# Altium schematic symbol library SchedaLed.SchLib: 10 symbols
Pins are listed as number, name and electrical type; pins without a type are passive.

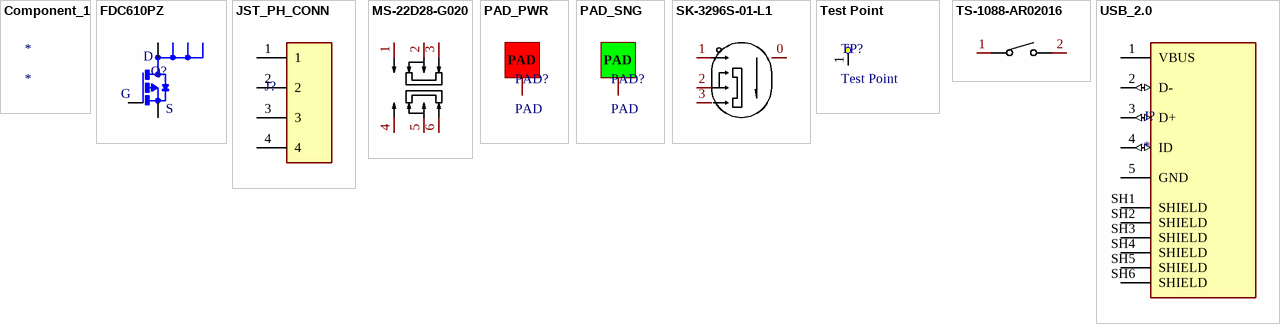
[diagram p0: symbols Component_1 to USB_2.0]

## Component_1
designator *

## FDC610PZ
designator Q?  (value not drawn)
footprint FDC610PZ
pins: 1 D1, 2 D2, 3 G, 4 S, 5 D4, 6 D3
text: D

## JST_PH_CONN
designator J?
footprint JST_PH_CONN
pins: 1, 2, 3, 4

## MS-22D28-G020
designator SW?  (value not drawn)
Manufacturer: G-Switch(品赞); Add into BOM: yes; Circuit: DPDT; Actuator Style: Rectangular columnar; Pin Style: SMDSplicing; Switch Length: 7.1mm; Switch Width: 4mm; Switch Height: 4.15mm; Actuator Color: Black; Current Rating (DC): 1A; Voltage Rating (DC): 6V; Mechanical Life: 1万次; Symbol: MS-22D28-G020; Device: MS-22D28-G020; LCSC Part Name: 微型拨动开关; Supplier Part: C963205; Manufacturer Part: MS-22D28-G020; Supplier Footprint: SMD; JLCPCB Part Class: Extended Part; Datasheet: https://atta.szlcsc.com/upload/public/pdf/source/20201201/C963205_C5D063C82E54835A0EB59C5EF53F51F1.pdf; Supplier: LCSC; Convert to PCB: yes; Mounting Style: Brick nogging; Operating Temperature: -20℃~+70℃
footprint SW-SMD_MS-22D28-G020
pins: 1, 2, 3, 4, 5, 6

## PAD_PWR
designator PAD?, comment PAD
footprint PAD_PWR
pins: 1 PAD

## PAD_SNG
designator PAD?, comment PAD
footprint PAD_SNG
pins: 1 PAD

## SK-3296S-01-L1
designator SW?  (value not drawn)
Manufacturer: XKB Connectivity(中国星坤); Add into BOM: yes; Circuit: SPDT; Actuator Style: Rectangular columnar; Pin Style: SMDSplicing; Switch Length: 7.8mm; Switch Width: 2.75mm; Switch Height: 1.35mm; Actuator Color: Black; Current Rating (DC): 50mA; Voltage Rating (DC): 12V; Mechanical Life: 1万次; Symbol: SK-3296S-01-L1; Device: SK-3296S-01-L1; LCSC Part Name: 柄长1.5mm 卧贴双档 滑动开关; Supplier Part: C319020; Manufacturer Part: SK-3296S-01-L1; Supplier Footprint: SMD; JLCPCB Part Class: Extended Part; Datasheet: https://atta.szlcsc.com/upload/public/pdf/source/20211011/33977E7F5E3AE40A3E3DC6795807E20F.pdf; Supplier: LCSC; Convert to PCB: yes; Mounting Style: 卧贴; Current Rating (AC): 50mA; Voltage Rating (AC): 12V; Operating Temperature: -40℃~+85℃
footprint SW-SMD_3P-P1.50_L2.7-W6.6
pins: 0, 1, 2, 3

## Test Point
designator TP?
Value: Test Point
footprint Test Point
pins: 1 Test Point

## TS-1088-AR02016
designator SW?  (value not drawn)
Manufacturer: XUNPU(讯普); Add into BOM: yes; Circuit: SPST; Actuator Style: Round Button; Operating Force: 160gf; Switch Length: 4mm; Switch Width: 3mm; Switch Height: 2mm; Strike Gundam: 不带; Contact Current: 50mA; Voltage Rating (DC): 12V; Insulation Resistance: 100MΩ; Actuator/Cap Color: Black; Pin Style: SMDSplicing; Mechanical Life: 10万次; Symbol: TS-1088-AR02016; Device: TS-1088-AR02016; Supplier: LCSC; Supplier Part: C720477; Manufacturer Part: TS-1088-AR02016; JLCPCB Part Class: Extended Part; LCSC Part Name: 4*3*2mm 立贴 轻触开关; Supplier Footprint: SMD; Datasheet: https://atta.szlcsc.com/upload/public/pdf/source/20200810/C720475_60D09DD6C54279ADDB2DC25100F1CC11.pdf; Convert to PCB: yes; Mounting Style: Brick nogging; Operating Temperature: -30℃~+80℃
footprint TS-1088-AR02016
pins: 1, 2

## USB_2.0
designator J?
footprint USB_2.0
pins: 1 VBUS (power), 2 D- (io), 3 D+ (io), 4 ID (io), 5 GND (power), SH1 SHIELD, SH2 SHIELD, SH3 SHIELD, SH4 SHIELD, SH5 SHIELD, SH6 SHIELD